# Altium footprint library SOT.PcbLib: 12 footprints
Each footprint in its own frame and in the unit in brackets; x right, y up, seen from the top. Pads: shape width x height; smd on the part's side, far side on the other; paste and mask are expansions set on the pad; w line width, h text height; cw(c..) or ccw(c..) is an arc to the next point about the centre after c.
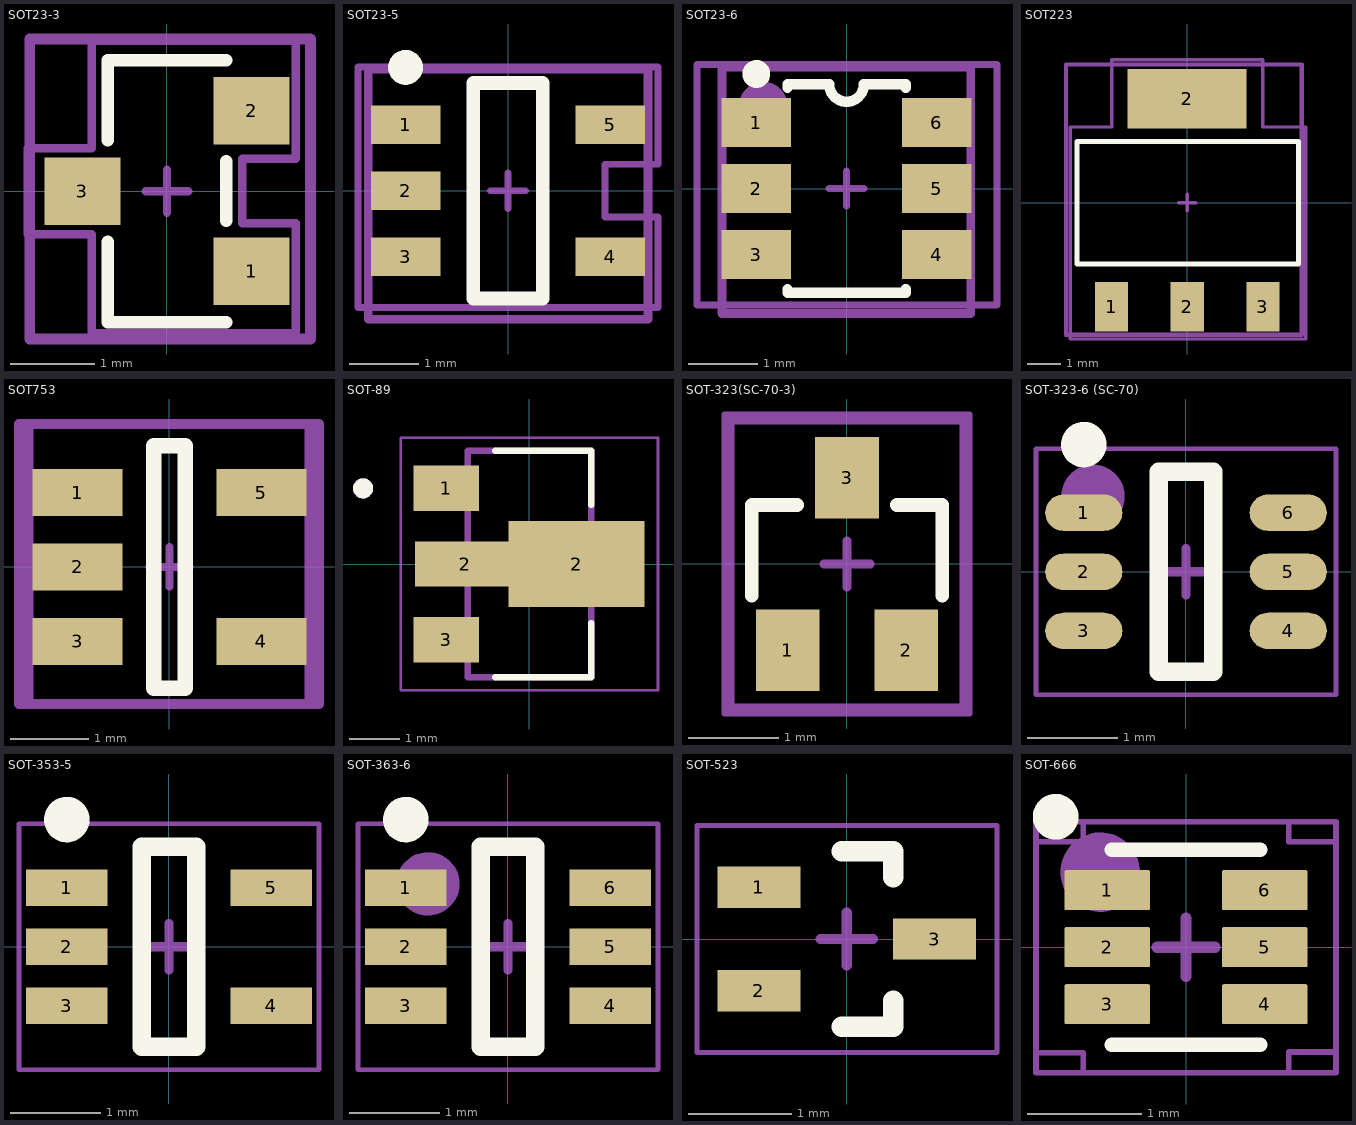
[diagram p0: the footprints below, top view; thin cyan lines are the x and y axes]

## SOT23-3 [mm]
pads (3):
  rect 0.9x0.8 smd mask+0.05: 1(1,-0.95) 2(1,0.95) 3(-1,0)
Top Overlay:
  lines w0.15: -0.7,-0.6 -0.7,-1.55 0.7,-1.55 ; -0.7,0.6 -0.7,1.55 0.7,1.55 ; 0.7,-0.35 0.7,0.35
Top Assembly:
  lines w0.1: -0.254,0 0.254,0 ; 0,-0.254 0,0.254
  lines w0.127: -1.625,-1.75 -1.625,1.8 1.698,1.8 1.698,-1.75 -1.625,-1.75
Top Courtyard (Mech15):
  lines w0.1: -1.651,-0.508 -1.651,0.508 -0.889,0.508 -0.889,1.778 1.524,1.778 1.524,0.381 0.889,0.381 0.889,-0.381 1.524,-0.381 1.524,-1.684 -0.541,-1.684 -0.889,-1.684 -0.889,-0.508 -1.651,-0.508
3D body "SOT-23-1.STEP": height 0.99, standoff 0.01, extent -1.214,-1.47 1.334,1.45

## SOT23-5 [mm] "SOT23, 5-Leads, Body 2,90x2,80mm, Pitch 0,95mm, IPC Low Density"
height 1.45
pads (5):
  rect 1x0.55 smd: 1(-1.475,0.95) 2(-1.475,0) 3(-1.475,-0.95) 4(1.475,-0.95) 5(1.475,0.95)
Top Overlay:
  circle w0.25: c-1.475,1.775 r0.125
  lines w0.2: -0.5,-1.55 -0.5,1.55 0.5,1.55 0.5,-1.55 -0.5,-1.55
Top Assembly:
  lines w0.1: -0.254,0 0.254,0 ; 0,-0.254 0,0.254
  lines w0.127: -2.012,-1.85 -2.012,1.75 2.015,1.75 2.015,-1.85 -2.012,-1.85
Top Courtyard (Mech15):
  lines w0.1: -2.159,-1.684 -2.159,1.778 -0.889,1.778 2.159,1.778 2.159,0.381 1.397,0.381 1.397,-0.381 2.159,-0.381 2.159,-1.684 -0.541,-1.684 -0.889,-1.684 -2.159,-1.684
3D body "SOT95P280X145-5M.step": height 1.45, standoff 0, extent -1.5,-1.525 1.5,1.525

## SOT23-6 [mm]
pads (6):
  rect 1x0.7 smd mask+0.05: 1(-1.3,0.95) 2(-1.3,0) 3(-1.3,-0.95) 4(1.3,-0.95) 5(1.3,0) 6(1.3,0.95)
Top Overlay:
  circle w0.2: c-1.3,1.65 r0.1
  lines w0.15: -0.85,-1.45 -0.85,-1.5 0.85,-1.5 0.85,-1.45 ; -0.85,1.45 -0.85,1.5 -0.25,1.5 ccw(c0,1.5) 0.25,1.5 0.85,1.5 0.85,1.45
Top Assembly:
  circle w0.4: c-1.199,1.19 r0.148
  lines w0.1: -0.254,0 0.254,0 ; 0,-0.254 0,0.254
  lines w0.127: -1.791,-1.8 1.788,-1.8 1.788,1.75 -1.791,1.75 -1.791,-1.8
Top Courtyard (Mech15):
  lines w0.1: -2.153,-1.674 -0.883,-1.674 -0.534,-1.674 2.165,-1.674 2.165,-0.372 2.165,0.39 2.165,1.787 -0.883,1.787 -2.153,1.787 -2.153,-1.674
3D body "SOT-23-6.step": height 1.09, standoff 0, extent -1.243,-1.412 1.183,1.382

## SOT223 [mm]
pads (4):
  rect 1x1.5 smd mask+0.05: 1(-2.286,-3.15) 2(0,-3.15) 3(2.286,-3.15)
  rect 3.6x1.8 smd mask+0.05: 2(0,3.15)
Top Overlay:
  lines w0.15: -3.336,-1.85 -3.336,1.85 3.364,1.85 3.364,-1.85 -3.336,-1.85
Top Assembly:
  lines w0.1: -0.254,0 0.254,0 ; 0,-0.254 0,0.254
  lines w0.127: -3.663,-3.998 3.462,-3.998 3.462,4.177 -3.663,4.177 -3.663,-3.998
Top Courtyard (Mech15):
  lines w0.1: -3.536,-4.125 3.589,-4.125 3.589,2.286 2.286,2.286 2.286,4.318 -2.286,4.318 -2.286,2.286 -3.536,2.286 -3.536,-4.125
3D body "sot-223.step": height 1.64, standoff -0.04, extent -3.25,-3.568 3.25,3.364

## SOT753 [mm] "SOT23, 5-Leads, Body 3,1x3,0mm (max), Pitch 0,95mm, IPC Medium Density"
height 1.1
pads (5):
  rect 1.15x0.6 smd: 1(-1.175,0.95) 2(-1.175,0) 3(-1.175,-0.95) 4(1.175,-0.95) 5(1.175,0.95)
Top Overlay:
  lines w0.2: -0.2,-1.55 0.2,-1.55 0.2,1.55 -0.2,1.55 -0.2,-1.55
Top Assembly:
  lines w0.1: -0.254,0 0.254,0 ; 0,-0.254 0,0.254
  lines w0.127: -1.802,-1.75 1.79,-1.75 1.79,1.825 -1.802,1.825 -1.802,-1.75
Top Courtyard (Mech15):
  lines w0.127: -1.923,-1.75 1.91,-1.75 1.91,1.825 -1.923,1.825 -1.923,-1.75
3D body "User Library-SOT753.STEP": height 1.1, standoff 0, extent -1.475,-1.55 1.525,1.55

## SOT-89 [mm]
pads (4):
  rect 1.3x0.9 smd: 1(-1.65,1.5) 3(-1.65,-1.5)
  rect 2x0.9 smd paste-1 mask+0: 2(-1.27,0)
  rect 2.7x1.7 smd paste-1 mask+0: 2(0.935,0)
Top Overlay:
  circle w0.2: c-3.3,1.5 r0.1
  lines w0.127: -0.68,-2.25 1.222,-2.25 1.222,-1.17 ; -0.68,2.25 1.222,2.25 1.222,1.17
Top Paste:
  region: 0.76,-0.47 -0.21,-0.47 -0.21,0.47 0.76,0.47
  region: 2.11,-0.47 1.14,-0.47 1.14,0.47 2.11,0.47
  region: -0.51,-0.235 -1.24,-0.235 -1.24,0.235 -0.51,0.235
  region: -1.46,-0.235 -2.19,-0.235 -2.19,0.235 -1.46,0.235
Top Solder:
  region: 2.4,-0.95 -0.5,-0.95 -0.5,-0.55 -2.4,-0.55 -2.4,0.55 -0.5,0.55 -0.5,0.95 2.4,0.95
Top Assembly:
  circle w0.2: c-3.3,1.5 r0.1
  lines w0.127: -1.222,-2.25 -1.222,2.25 1.222,2.25 1.222,-2.25 -1.222,-2.25
Top Courtyard (Mech15):
  lines w0.05: -2.55,-2.5 -2.55,2.5 2.55,2.5 2.55,-2.5 -2.55,-2.5
3D body "step_temp.STEP": height 1.6, standoff 0, extent -2.268,-2.25 1.827,2.25

## SOT-323(SC-70-3) [mm]
pads (3):
  rect 0.7x0.9 smd mask+0.05: 1(-0.65,-0.95) 2(0.65,-0.95) 3(0,0.95)
Top Overlay:
  lines w0.15: -1.05,-0.35 -1.05,0.65 -0.55,0.65 ; 0.55,0.65 1.05,0.65 1.05,-0.35
Top Assembly:
  lines w0.05: -1.354,-1.651 -1.354,1.651 1.354,1.651 1.354,-1.651 -1.354,-1.651
  lines w0.1: -0.254,0 0.254,0 ; 0,-0.254 0,0.254
Top Courtyard (Mech15):
  lines w0.127: -1.3,-1.6 1.3,-1.6 1.3,1.6 -1.3,1.6 -1.3,-1.6
3D body "User Library-sc70-3.STEP": height 1, standoff 0, extent -1.05,-1.15 1.05,1.15

## SOT-323-6 (SC-70) [mm] "TSOP, 6-Leads, Body 2.00x1.25mm, Pitch 0.65mm, IPC Medium Density"
height 1.1
pads (6):
  oval 0.85x0.4 smd: 1(-1.125,0.65) 2(-1.125,0) 3(-1.125,-0.65) 4(1.125,-0.65) 5(1.125,0) 6(1.125,0.65)
Top Overlay:
  circle w0.25: c-1.125,1.4 r0.125
  lines w0.2: -0.3,-1.1 -0.3,1.1 0.3,1.1 0.3,-1.1 -0.3,-1.1
Top Assembly:
  circle w0.4: c-1.024,0.831 r0.148
  lines w0.05: -1.651,-1.354 1.651,-1.354 1.651,1.354 -1.651,1.354 -1.651,-1.354
  lines w0.1: -0.254,0 0.254,0 ; 0,-0.254 0,0.254
Top Courtyard (Mech15):
  lines w0.05: -1.651,-1.354 1.651,-1.354 1.651,1.354 -1.651,1.354 -1.651,-1.354
3D body "SC70-6.step": height 0.92, standoff -0.03, extent -1.05,-0.975 1.05,1.025

## SOT-353-5 [mm] "SOT23, 5-Leads, Body 2,00x2,10mm, Pitch 0,65mm, IPC Medium Density"
height 1.1
pads (5):
  rect 0.9x0.4 smd: 1(-1.125,0.65) 2(-1.125,0) 3(-1.125,-0.65) 4(1.125,-0.65) 5(1.125,0.65)
Top Overlay:
  circle w0.25: c-1.125,1.4 r0.125
  lines w0.2: -0.3,-1.1 -0.3,1.1 0.3,1.1 0.3,-1.1 -0.3,-1.1
Top Assembly:
  lines w0.05: -1.651,-1.354 1.651,-1.354 1.651,1.354 -1.651,1.354 -1.651,-1.354
  lines w0.1: -0.254,0 0.254,0 ; 0,-0.254 0,0.254
Top Courtyard (Mech15):
  lines w0.05: -1.651,-1.354 -1.651,1.354 1.651,1.354 1.651,-1.354 -1.651,-1.354
3D body "SOT65P210X110-5N.step": height 1.1, standoff 0, extent -1.2,-1.1 1.2,1.1

## SOT-363-6 [mm] "SOT23, 6-Leads, Body 2,00x2,10mm, Pitch 0,65mm, IPC Medium Density"
height 1.1
pads (6):
  rect 0.9x0.4 smd: 1(-1.125,0.65) 2(-1.125,0) 3(-1.125,-0.65) 4(1.125,-0.65) 5(1.125,0) 6(1.125,0.65)
Top Overlay:
  circle w0.25: c-1.125,1.4 r0.125
  lines w0.2: -0.3,-1.1 0.3,-1.1 0.3,1.1 -0.3,1.1 -0.3,-1.1
Top Assembly:
  circle w0.4: c-0.881,0.692 r0.148
  lines w0.05: -1.651,-1.354 1.651,-1.354 1.651,1.354 -1.651,1.354 -1.651,-1.354
  lines w0.1: -0.254,0 0.254,0 ; 0,-0.254 0,0.254
Top Courtyard (Mech15):
  lines w0.05: -1.651,-1.354 1.651,-1.354 1.651,1.354 -1.651,1.354 -1.651,-1.354
3D body "SOT65P210X110-6N.step": height 1.1, standoff 0, extent -1.2,-1.1 1.2,1.1

## SOT-523 [mm] "SOT23, 3-Leads, Body 1,60x1,60mm, Pitch 0,50mm, IPC Medium Density"
height 0.9
pads (3):
  rect 0.8x0.4 smd: 1(-0.85,0.5) 2(-0.85,-0.5) 3(0.85,0)
Top Overlay:
  lines w0.2: -0.05,-0.85 0.45,-0.85 0.45,-0.6 ; -0.05,0.85 0.45,0.85 0.45,0.6
Top Assembly:
  lines w0.05: -1.45,-1.1 -1.45,1.1 -0.9,1.1 0.9,1.1 1.455,1.1 1.455,-1.1 0.9,-1.1 -0.9,-1.1 -1.45,-1.1
  lines w0.1: -0.254,0 0.254,0 ; 0,-0.254 0,0.254
Top Courtyard (Mech15):
  lines w0.05: -1.45,-1.1 -1.45,1.1 -0.9,1.1 0.9,1.1 1.455,1.1 1.455,-1.1 0.9,-1.1 -0.9,-1.1 -1.45,-1.1
3D body "SOT50P160X90-3N.step": height 0.9, standoff 0, extent -0.975,-0.85 0.975,0.85

## SOT-666 [mm]
pads (6):
  rrect8% 0.75x0.35 smd: 1(-0.69,0.5) 2(-0.69,0) 3(-0.69,-0.5) 4(0.69,-0.5) 5(0.69,0) 6(0.69,0.5)
Top Overlay:
  circle w0.2: c-1.143,1.143 r0.1
  lines w0.127: -0.65,-0.855 0.65,-0.855 ; -0.65,0.855 0.65,0.855
Top Assembly:
  circle w0.4: c-0.752,0.657 r0.148
  lines w0.05: -1.315,-1.1 -1.315,1.1 -0.9,1.1 0.9,1.1 1.315,1.1 1.315,-1.1 0.9,-1.1 -0.9,-1.1 -1.315,-1.1
  lines w0.1: -0.254,0 0.254,0 ; 0,-0.254 0,0.254
Top Courtyard (Mech15):
  lines w0.05: -1.315,-0.925 -1.315,0.925 -0.9,0.925 -0.9,1.1 0.9,1.1 0.9,0.925 1.315,0.925 1.315,-0.92 0.9,-0.92 0.9,-1.1 -0.9,-1.1 -0.9,-0.925 -1.315,-0.925
3D body "User Library-SOT50P160X60-6.STEP": height 0.6, standoff 0, extent -0.8,-0.795 0.8,0.795